# EAGLE library part TMP102 (library SparkFun-Breakouts)
TMP102 Breakout from SparkFun SFU:SEN-09418
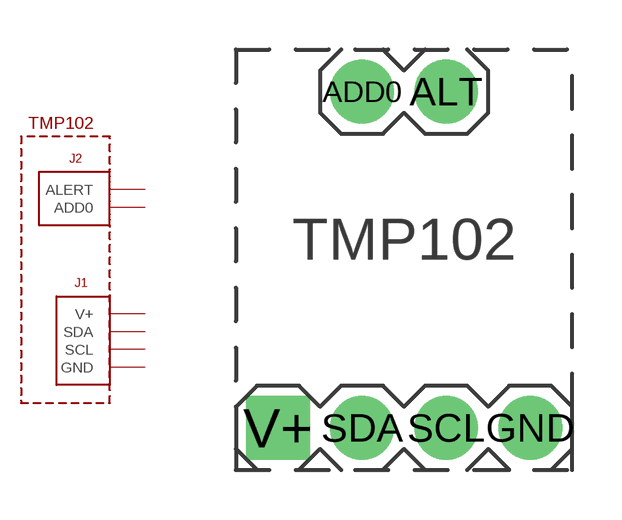
[diagram p1: symbol with the pads of TMP102; footprint TMP102]

Designator prefix -

## TMP102  [TMP102]
ADD0  ADD0
ALT  ALERT
GND  GND  pwr
SCL  SCL  out
SDA  SDA
V+  V+  pwr

## Footprint TMP102 (pad centres in mm)
drill 1 pad 1.93: ADD0 3.81,11.43; ALT 6.35,11.43; GND 8.89,1.27; SCL 6.35,1.27; SDA 3.81,1.27
drill 1 pad 1.93 square: V+ 1.27,1.27